# Altium footprint library EPG0B304HLN.PcbLib: 1 footprints
Each footprint in its own frame and in the unit in brackets; x right, y up, seen from the top. Pads: shape width x height; smd on the part's side, far side on the other; paste and mask are expansions set on the pad; w line width, h text height; cw(c..) or ccw(c..) is an arc to the next point about the centre after c.
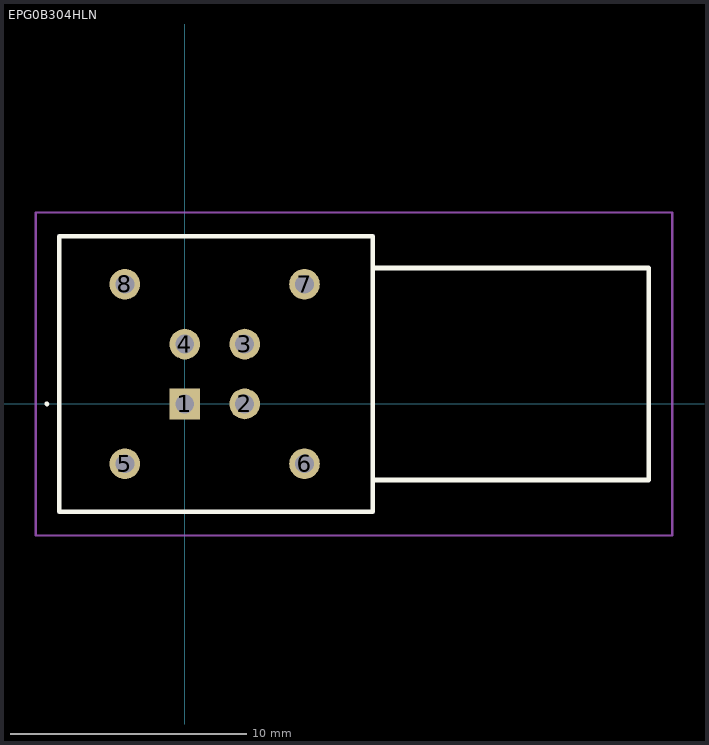
[diagram p0: the footprint, top view; thin cyan lines are the x and y axes]

## EPG0B304HLN [mm]
pads (8):
  rect 1.3x1.3 hole 0.8: 1(0,0)
  round 1.3 hole 0.8: 2(2.54,0) 3(2.54,2.54) 4(0,2.54) 5(-2.54,-2.54) 6(5.08,-2.54) 7(5.08,5.08) 8(-2.54,5.08)
Top Overlay:
  lines w0.1: -5.9,0 cw(c-5.85,0) -5.8,0 ; -5.9,0 -5.9,0 ; -5.9,0 ccw(c-5.85,0) -5.8,0 ; -5.8,0 -5.8,0
  lines w0.2: 7.98,-3.23 19.68,-3.23 19.68,5.77 7.98,5.77 ; -5.32,-4.58 7.98,-4.58 7.98,7.12 -5.32,7.12 -5.32,-4.58
Mechanical 15:
  lines w0.1: 7.98,-3.23 19.68,-3.23 19.68,5.77 7.98,5.77 ; -5.32,-4.58 7.98,-4.58 7.98,7.12 -5.32,7.12 -5.32,-4.58
Mechanical 20:
  lines w0.1: -6.32,-5.58 20.68,-5.58 20.68,8.12 -6.32,8.12 -6.32,-5.58